# EAGLE library part AR1010 (library ar1010)
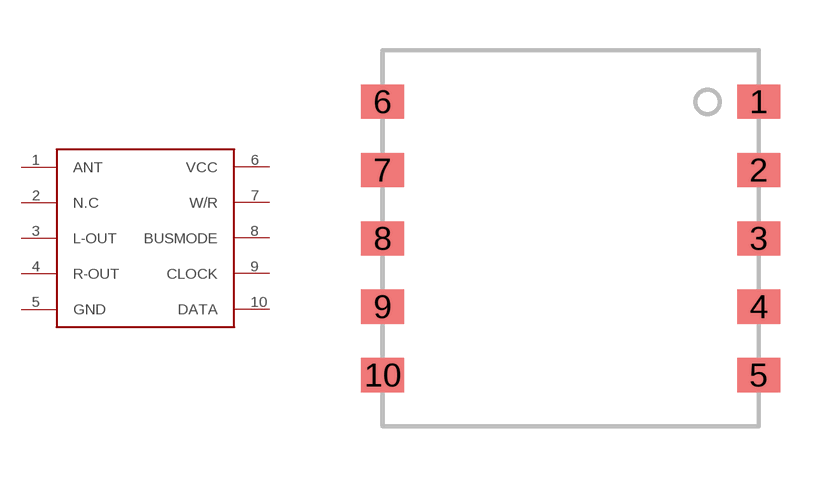
[diagram p0: symbol with the pads of AR1010; footprint AR1010]

Designator prefix -

## AR1010  [AR1010]
1  ANT
2  N.C
3  L-OUT
4  R-OUT
5  GND
6  VCC
7  W/R
8  BUSMODE
9  CLOCK
10  DATA

## Footprint AR1010 (pad centres in mm)
smd 1.27 x 1.016: 1 -18.034,-0.508; 2 -18.034,-2.54; 3 -18.034,-4.572; 4 -18.034,-6.604; 5 -18.034,-8.636; 6 -29.21,-0.508; 7 -29.21,-2.54; 8 -29.21,-4.572; 9 -29.21,-6.604; 10 -29.21,-8.636